# Altium footprint library LGQ971.PcbLib: 1 footprints
Each footprint in its own frame and in the unit in brackets; x right, y up, seen from the top. Pads: shape width x height; smd on the part's side, far side on the other; paste and mask are expansions set on the pad; w line width, h text height; cw(c..) or ccw(c..) is an arc to the next point about the centre after c.
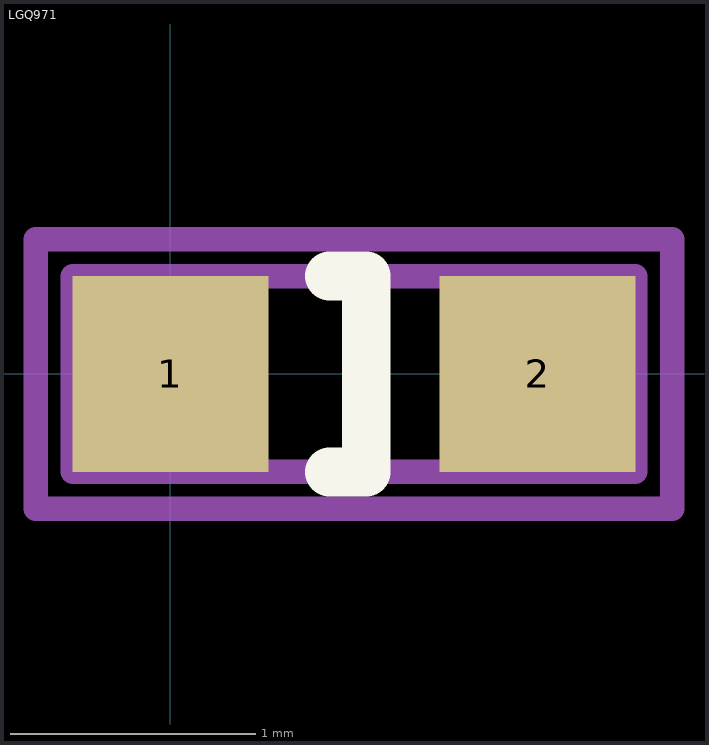
[diagram p0: the footprint, top view; thin cyan lines are the x and y axes]

## LGQ971 [mm] "OSRAM - LGQ971 - LED, SMD, GREEN"
height 0.9
pads (2):
  rect 0.8x0.8 smd: 1(0,0) 2(1.5,0)
Top Overlay:
  lines w0.2: 0.65,-0.4 0.8,-0.4 0.8,0.4 0.65,0.4
Mechanical 13:
  lines w0.1: -0.4,-0.4 -0.4,0.4 1.9,0.4 1.9,-0.4 -0.4,-0.4
Mechanical 15:
  lines w0.1: -0.55,-0.55 -0.55,0.55 2.05,0.55 2.05,-0.55 -0.55,-0.55
3D body: height 0.9, standoff 0, extent 0.025,-0.4 1.425,0.4